# Altium footprint library JWB-001_Main.PcbLib: 35 footprints (part 3 of 3)
Each footprint in its own frame and in the unit in brackets; x right, y up, seen from the top. Pads: shape width x height; smd on the part's side, far side on the other; paste and mask are expansions set on the pad; w line width, h text height; cw(c..) or ccw(c..) is an arc to the next point about the centre after c.
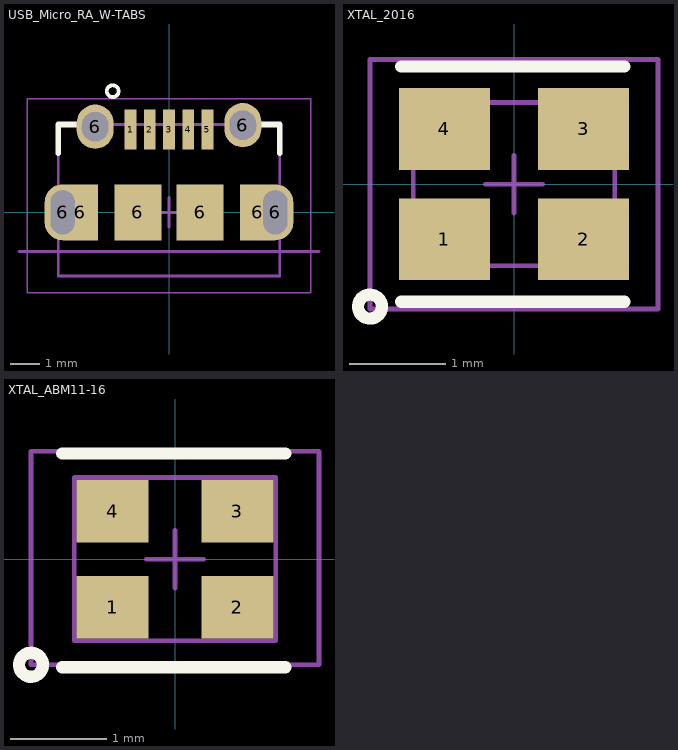
[diagram p2: the footprints below, top view; thin cyan lines are the x and y axes]

## USB_Micro_RA_W-TABS [mm] "USB Micro-AB Connector, 5-Leads, Pitch 0.65mm, 8mm x 5mm"
height 2.8
pads (13):
  rect 0.4x1.35 smd: 1(-1.3,2.8) 2(-0.65,2.8) 3(0,2.8) 4(0.65,2.8) 5(1.3,2.8)
  oval 1.225x1.9 hole 0.825 slot 1.5 at 90 deg: 6(-3.6,0) 6(3.6,0.001)
  rect 1.2x1.9 smd: 6(-3,0) 6(3,0)
  oval 1.25x1.5 hole 0.9 slot 1 at 90 deg: 6(-2.5,2.9) 6(2.5,2.95)
  rect 1.6x1.9 smd: 6(-1.05,0) 6(1.05,0)
Top Overlay:
  circle w0.127: c-1.905,4.103 r0.2
  lines w0.2: -3.75,2 -3.75,2.975 -3.149,2.976 ; 3.149,2.975 3.75,2.975 3.75,2
Mechanical 11:
  text ".Designator" at 2.286,0.737 h1.5
Mechanical 13:
  lines w0.1: -3.75,-2.15 -3.75,2.976 3.75,2.976 3.75,-2.15 -3.75,-2.15
Mechanical 15:
  lines w0.05: -4.8,3.851 4.8,3.851 4.8,-2.723 -4.8,-2.723 -4.8,3.851
  lines w0.1: -5.08,-1.325 5.08,-1.325 ; -0.5,0 0.5,0 ; 0,-0.5 0,0.5
3D body: height 2.83, standoff 2.25, extent -3.05,-2.623 3.05,-2.023
3D body: height 0.25, standoff -0.32, extent -3.05,-2.623 3.05,-2.023
3D body: height 1.79, standoff 0.71, extent 3.5,-2.625 4,-2.023
3D body: height 1.79, standoff 0.71, extent -4,-2.625 -3.5,-2.023
3D body: height 0.25, standoff 0, extent -3.25,1.775 3.25,2.105
3D body: height 2.5, standoff -0.01, extent -3.754,1.776 3.757,2.976
3D body: height 0.55, standoff -0.6, extent 3.03,-0.425 3.8,0.425
3D body: height 0.55, standoff -0.6, extent -3.8,-0.425 -3.03,0.425
3D body: height 2.51, standoff -0.01, extent -3.756,-2.024 3.757,1.776
3D body: height 0.25, standoff 0, extent -0.15,2.104 0.157,3.247
3D body: height 0.25, standoff 0, extent 0.5,2.104 0.807,3.247
3D body: height 0.25, standoff 0, extent 1.15,2.104 1.457,3.247
3D body: height 0.25, standoff 0, extent -1.45,2.104 -1.143,3.248
3D body: height 0.25, standoff 0, extent -0.8,2.104 -0.493,3.247
3D body: height 2.25, standoff -0.85, extent -2.379,2.826 2.387,3.426
3D body: height 2.5, standoff 2.25, extent -0.967,2.825 0.972,3.425

## XTAL_2016 [mm] "Crystal, 4 lead, 2.0mm x 1.6mm"
height 0.5
pads (4):
  rect 0.95x0.85 smd: 1(-0.725,-0.575) 2(0.725,-0.575) 3(0.725,0.575) 4(-0.725,0.575)
Top Overlay:
  circle w0.127: c-1.5,-1.275 r0.125
  lines w0.127: -1.175,-1.225 1.15,-1.225 ; -1.175,1.225 1.15,1.225
Mechanical 11:
  text ".Designator" at -0.762,-0.254 h0.5
Mechanical 13:
  lines w0.05: -1.05,-0.85 1.05,-0.85 1.05,0.85 -1.05,0.85 -1.05,-0.85
Mechanical 15:
  lines w0.05: -0.3,0 0.3,0 ; 0,-0.3 0,0.3 ; -1.5,-1.3 -1.5,1.3 1.5,1.3 1.5,-1.3 -1.5,-1.3
3D body: height 0.5, standoff 0, extent -1.05,-0.85 1.05,0.85

## XTAL_ABM11-16 [mm] "Crystal, 4 lead, 2.0mm x 1.6mm"
height 0.5
pads (4):
  rect 0.75x0.65 smd: 1(-0.65,-0.5) 2(0.65,-0.5) 3(0.65,0.5) 4(-0.65,0.5)
Top Overlay:
  circle w0.127: c-1.5,-1.1 r0.125
  lines w0.127: -1.175,-1.125 1.15,-1.125 ; -1.175,1.1 1.15,1.1
Mechanical 11:
  text ".Designator" at -0.762,-0.254 h0.5
Mechanical 13:
  lines w0.05: -1.05,-0.85 1.05,-0.85 1.05,0.85 -1.05,0.85 -1.05,-0.85
Mechanical 15:
  lines w0.05: -0.3,0 0.3,0 ; 0,-0.3 0,0.3 ; -1.5,-1.1 -1.5,1.125 1.5,1.125 1.5,-1.1 -1.5,-1.1
3D body "User Library-ABM11.STEP": height 0.58, standoff -0.01, extent -0.975,-0.8 1.025,0.8